# Altium schematic symbol library oscilator.SchLib: 7 symbols
Pins are listed as number, name and electrical type; pins without a type are passive.

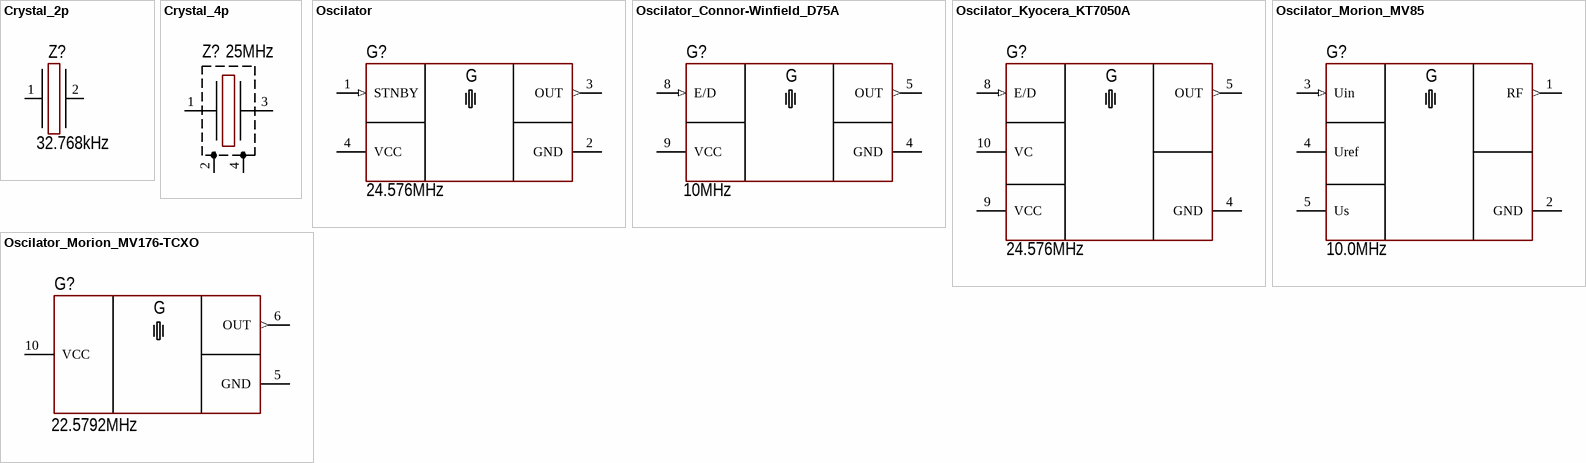
[diagram p0: symbols Crystal_2p to Oscilator_Morion_MV176-TCXO]

## Crystal_2p
designator Z?  Frequency: 32.768kHz
Manufacturer: Epson; PartNumber: FC-135 32.7680KA-A5; ValueManufacturerPartNumber: Crystal, 32.768kHz, 12.5pF, ±20ppm, case 3215, -40...+85°C; TypeOscilator: Crystal; LoadCapacitance: 12.5pF; Tolerance: ±20ppm; Package: case 3215; HelpURL: https://www.digikey.com/product-detail/en/epson/FC-135-32.7680KA-A5/SER4103CT-ND/6188447; Temperature: -40...+85°C
footprint XTAL_1140X470X160_2P(HC/49US) (HC/49US Crystal;11.40mm L X 4.70mm W X 1.60mm H)
footprint XTAL_1140X480X410_2P (HC-49/S3 Case, SMD Crystal; 2 Pins, Body 11.4mm L X 4.80mm W X 4.10mm H)
footprint XTAL_1160X490X430_2P(HC49/4H) (HC49/4H SMX Case, SMD Cristal, Body 11.6x4.9mm)
footprint XTAL_3215_2P
footprint XTAL_HC-49/U-S_2P (HC-49/U-S Leaded Cristal, Body 11.5x4.66mm; Pitch 4.88mm)
footprint XTAL_HC-49/U_2P (HC-49/U Leaded Cristal, Body 11.05x4.8mm; Pitch 4.88mm)
footprint XTAL_HC-49U-W_2P (МД)
pins: 1, 2

## Crystal_4p
designator Z?  Frequency: 25MHz
Manufacturer: Murata Electronics; PartNumber: XRCGB25M000F0L00R0; ValueManufacturerPartNumber: Crystal, 25MHz, 6pF, ±50ppm, case 2016, -30...+85°C; TypeOscilator: Crystal; LoadCapacitance: 6pF; Tolerance: ±50ppm; Package: case 2016; HelpURL: https://www.digikey.com/product-detail/en/murata-electronics-north-america/XRCGB25M000F0L00R0/490-5577-1-ND/2368391; Temperature: -30...+85°C
footprint XTAL_2016_4P
footprint XTAL_2520_4P
footprint XTAL_3225_4P
footprint XTAL_5032_4P
pins: 1, 2, 3, 4

## Oscilator
designator G?  Frequency: 24.576MHz
Crystal Oscilator; Manufacturer: NDK; PartNumber: NSC5083D-24.576M; ValueManufacturerPartNumber: Oscilator, 24.576MHz, CMOS, ±50ppm, 2.5x2.0mm, -40...+85°C; LoadCapacitance: CMOS; Tolerance: ±50ppm; Package: 2.5x2.0mm; HelpURL: https://www.digikey.com/en/products/detail/ndk-america-inc/NSC5083D-24-576M/13982370; Temperature: -40...+85°C; TypeOscilator: Oscilator
footprint OSC_CC_200X250X90_4P (Oscillator, corner concave; 4 pin, 2.50mm L X 2.00mm W X 0.90mm H, IPC Medium Density)
footprint OSC_CC_320X500X160_4P (SMD Oscillator, Corner Convave, 4 pins, 5x3.2mm)
footprint OSC_CC_320X500X180_4P (SMD Oscillator, Corner Convave, 4 pins, 5x3mm)
footprint OSC_CRYSTEK_575_4P (Oscillator, 5.08mm Pitch; 4 Pin, 5.08mm L X 7.5mm W X 2.5mm H)
footprint OSC_CRYSTEK_914_4P (Oscillator, 5.08mm Pitch; 4 Pin, 14.2mm L X 9.14mm W X 5.33mm H)
footprint OSC_CRYSTEK_950/957_4P (Oscillator, 5.08mm Pitch; 4 Pin, 14.2mm L X 9.14mm W X 5.3mm H)
footprint OSC_SC_254P_320X500X95_4P (Oscillator, side concave; 2.54mm pitch; 4 pin, 3.20mm L X 5.00mm W X 1.10mm H, IPC Medium Density)
footprint OSC_SC_254P_320X500X110_4P (Oscillator, side concave; 2.54mm pitch; 4 pin, 3.20mm L X 5.00mm W X 1.10mm H, IPC Medium Density)
footprint OSC_SC_254P_320X500X130_4P (Oscillator, Side Concave; 2.54mm Pitch; 4 pin, 3.20mm L X 5.00mm W X 1.30mm H, IPC Medium Density)
footprint OSC_SC_508P_500X700X140_4P (Oscillator,side concave; 5.08mm pitch; 4 pin,5.00mm L X 7.00mm W X 1.40mm H, IPC Medium Density)
footprint OSC_SC_508P_500X700X150_4P (CFPS-72-73 Case, SMD Oscillator, side convave, 4 pins, 5.00x7.00mm)
footprint OSC_SC_508P_500X700X160_4P (SMD Oscillator, side convave, 4 pins, 5.00x7.00mm)
footprint OSC_SC_508P_500X700X180_4P (SMD Oscillator, side convave, 4 pins, 5.00x7.00mm)
footprint OSC_SC_508P_500X700X200_4P (CFPT Case, SMD Oscillator, side convave, 4 pins, 5.00x7.00mm)
footprint OSC_DIP/SMD_Universal (Oscillator DIP/SMD Universal)
footprint OSC_DIP14_2080X1320X598 (Oscillator DIP 14 Leads, Row Spacing 7.62 mm; Pitch 2.54mm)
footprint OSC_SMD_Universal (Oscillator SMD Universal)
footprint OSC_SMD_Universal_Morion (Oscillator SMD Universal)
pins: 1 STNBY (in), 2 GND, 3 OUT (out), 4 VCC (power)
text: G

## Oscilator_Connor-Winfield_D75A
designator G?  Frequency: 10MHz
Crystal Oscilator; Manufacturer: Connor Winfield; PartNumber: D75A-010.0M-T; ValueManufacturerPartNumber: Oscilator, 10MHz, CMOS, ±280ppb, 7.0x5.0mm, -0...+70°C; LoadCapacitance: CMOS; Tolerance: ±280ppb; Package: 7.0x5.0mm; HelpURL: https://www.digikey.com/en/products/detail/connor-winfield/D75A-010-0M-T/1965575?WT.z_oss_type=Keyword&WT.z_page_sub_type=SS&WT.z_page_type=SP&WT.z_supplier_id=222&lang=en&s=N4IgjCBcpgrADPKoDGUBmBDANgZwKYA0IA9lANogAcALFQJwgC6xADgC5QgDK7ATgEsAdgHMQAX2IAmOEmgg0kLHiKkK4eAAIAsgAkAXszadIIAKpCB7APLpt%2BTLgCuffBOIBaKsgUYcBYjJISilQ5nFJECl1ABMAdlhMcKA&site=us&x=0&y=0; Temperature: -0...+70°C; TypeOscilator: Oscilator
footprint OSC_CONNOR-WINFIELD_5x7mm (SMD TCXO, Side Concave, 10 pins, 5.00x7.00mm)
pins: 1 NC hidden, 2 NC hidden, 3 NC hidden, 4 GND, 5 OUT (out), 6 NC hidden, 7 NC hidden, 8 E/D (in), 9 VCC (power), 10 NC (power) hidden
text: G

## Oscilator_Kyocera_KT7050A
designator G?  Frequency: 24.576MHz
Crystal Oscilator; Manufacturer: Kyocera; PartNumber: KT7050A24576AAW33TAH; ValueManufacturerPartNumber: Oscilator, 24.576MHz, CMOS, ±0,1x10-6, 7.0x5.0mm, -40...+85°C; LoadCapacitance: CMOS; Tolerance: ±0,1x10-6; Package: 7.0x5.0mm; HelpURL: https://ele.kyocera.com/en/product/crystal-device/temperature_compensated_crystal_oscillators_tcxo/kt7050a/kt7050a24576aaw33tah/; Temperature: -40...+85°C; TypeOscilator: Oscilator
footprint OSC_KYOCERA_KT7050A (Oscillator KT7050A Series, 10 pins, 5x7mm)
pins: 1 NC hidden, 2 NC hidden, 3 NC hidden, 4 GND, 5 OUT (out), 6 NC hidden, 7 NC hidden, 8 E/D (in), 9 VCC (power), 10 VC (power)
text: G

## Oscilator_Morion_MV85
designator G?  Frequency: 10.0MHz
Crystal Oscilator; Manufacturer: Morion; PartNumber: MV85–B 20 G–5V–SIN–10.0 MHz–LN; ValueManufacturerPartNumber: Oscilator (OCXO), 10.0MHz, CMOS, ±5.0x10-9, 25x25x12.7mm, -40...+85°C; TypeOscilator: Oscilator (OCXO); LoadCapacitance: CMOS; Tolerance: ±5.0x10-9; Package: 25x25x12.7mm; HelpURL: https://morion.com.ru/files/oscillators/82_file-en.pdf?1634723416; Temperature: -40...+85°C
footprint OSC_MORION_MV85_S (5 Pins, 25.4mm x 25.4mm, Soldered Case)
footprint OSC_MORION_MV85_W (5 Pins, 25.8mm x 25.8mm, Welded Case)
pins: 1 RF (out), 2 GND, 3 Uin (in), 4 Uref, 5 Us (power)
text: G

## Oscilator_Morion_MV176-TCXO
designator G?  Frequency: 22.5792MHz
Crystal Oscilator; Manufacturer: Morion; PartNumber: MV176–TCXO–C 500 K–22,5792МHz–SIN–3.3–75–B1; ValueManufacturerPartNumber: Oscilator, 22.5792MHz, CMOS, ±0,5x10-6, 7.0x5.0mm, -20...+70°C; LoadCapacitance: CMOS; Tolerance: ±0,5x10-6; Package: 7.0x5.0mm; HelpURL: https://morion.com.ru/files/oscillators/43_file-en.pdf?1627540755; Temperature: -20...+70°C; TypeOscilator: Oscilator
footprint OSC_MORION_75 (SMD TCXO, Side Concave, 10 pins, 5.00x7.00mm)
pins: 1 NC hidden, 2 NC hidden, 3 NC hidden, 4 NC hidden, 5 GND, 6 OUT (out), 7 NC hidden, 8 NC hidden, 9 NC hidden, 10 VCC (power)
text: G